# EAGLE library part 690367192472 (library Board-to-Board (rev18a))
WR-MM Female Connector with Latch and without Polarization, 24 Pins=>Code : Con_BTB_MM_Female_THT_St_690367192472 <http://katalog.we-online.de/media/thumbs2/eican/thb_Con_BTB_MM_Female_THT_St_69036719xx72_pf2.jpg> Details see: http://katalog.we-online.de/en/em/6903_6719_xx_72 Created 2014-06-04, Karrer Zheng 2014 (C) Würth Elektronik
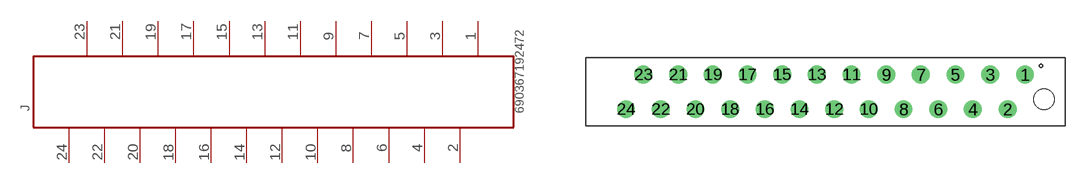
[diagram p347: symbol with the pads of 690367192472; footprint 690367192472]

Designator prefix J

## 690367192472  [690367192472]
1  24  pas
2  23  pas
3  22  pas
4  21  pas
5  20  pas
6  19  pas
7  18  pas
8  17  pas
9  16  pas
10  15  pas
11  14  pas
12  13  pas
13  12  pas
14  11  pas
15  10  pas
16  9  pas
17  8  pas
18  7  pas
19  6  pas
20  5  pas
21  4  pas
22  3  pas
23  2  pas
24  1  pas

## Footprint 690367192472 (pad centres in mm)
WR-MM Female Connector with Latch and without Polarization, 24 Pins
drill 0.8: 1 13.335,1.27; 2 12.065,-1.27; 3 10.795,1.27; 4 9.525,-1.27; 5 8.255,1.27; 6 6.985,-1.27; 7 5.715,1.27; 8 4.445,-1.27; 9 3.175,1.27; 10 1.905,-1.27; 11 0.635,1.27; 12 -0.635,-1.27; 13 -1.905,1.27; 14 -3.175,-1.27; 15 -4.445,1.27; 16 -5.715,-1.27; 17 -6.985,1.27; 18 -8.255,-1.27; 19 -9.525,1.27; 20 -10.795,-1.27; 21 -12.065,1.27; 22 -13.335,-1.27; 23 -14.605,1.27; 24 -15.875,-1.27
hole 1.5 at 14.735,-0.53